# EAGLE library part ST7789 (library Me433lib)
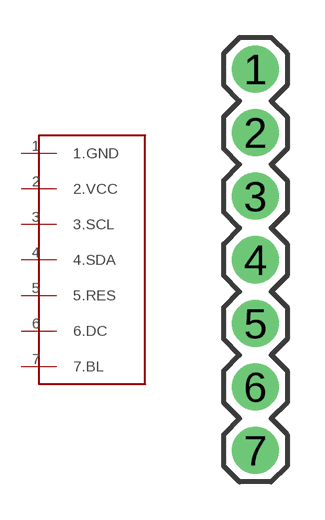
[diagram p11: symbol with the pads of 1X07; footprint 1X07]

Designator prefix -

## ST7789  [1X07]
1  1.GND
2  2.VCC
3  3.SCL
4  4.SDA
5  5.RES
6  6.DC
7  7.BL

## Footprint 1X07 (pad centres in mm)
Plated Through Hole -7 Pin Specifications: Pin count:7 Pin pitch:0.1" Example device(s): CONN_07
drill 1.016 pad 1.88: 1 0,0; 2 0,-2.54; 3 0,-5.08; 4 0,-7.62; 5 0,-10.16; 6 0,-12.7; 7 0,-15.24